# Altium schematic symbol library Inductor_Iron.Schlib: 1 symbol
Pins are listed as number, name and electrical type; pins without a type are passive.

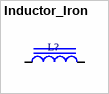
[diagram p0: symbol Inductor_Iron]

## Inductor_Iron
designator L?
pins: 1, 2